# Altium footprint library AMASS_XT60-M.PcbLib: 1 footprints
Each footprint in its own frame and in the unit in brackets; x right, y up, seen from the top. Pads: shape width x height; smd on the part's side, far side on the other; paste and mask are expansions set on the pad; w line width, h text height; cw(c..) or ccw(c..) is an arc to the next point about the centre after c.
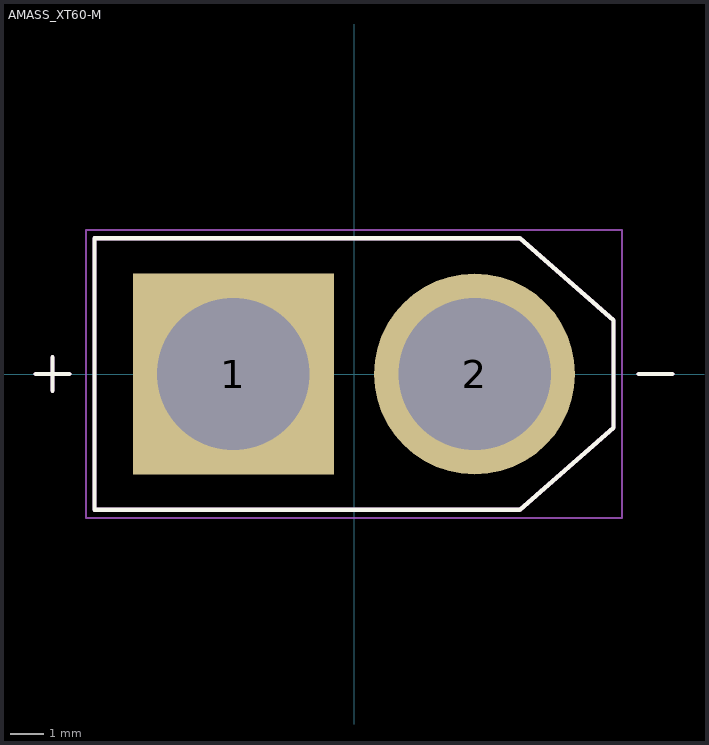
[diagram p0: the footprint, top view; thin cyan lines are the x and y axes]

## AMASS_XT60-M [mm]
height 16
pads (2):
  rect 6x6 / inner round 6 / far side rect 6x6 hole 4.55: 1(-3.6,0)
  round 6 hole 4.55: 2(3.6,0)
Top Overlay:
  lines w0.127: -9.5,0 -8.5,0 ; -9,-0.5 -9,0.5 ; 8.5,0 9.5,0 ; -7.75,-4.05 4.95,-4.05 7.75,-1.6 7.75,1.6 4.95,4.05 -7.75,4.05 -7.75,-4.05
Mechanical 13:
  lines w0.127: -9.5,0 -8.5,0 ; -9,-0.5 -9,0.5 ; 8.5,0 9.5,0 ; -7.75,-4.05 4.95,-4.05 7.75,-1.6 7.75,1.6 4.95,4.05 -7.75,4.05 -7.75,-4.05
Mechanical 15:
  lines w0.05: -8,-4.3 -8,4.3 8,4.3 8,-4.3 -8,-4.3
3D body "step_temp.STEP": height 16, standoff -4.5, extent -7.75,-4.05 7.75,4.05